# EAGLE library part AD8676BRMZ (library SSv3_1)
Dual Rail-to-Rail Output Op Amp
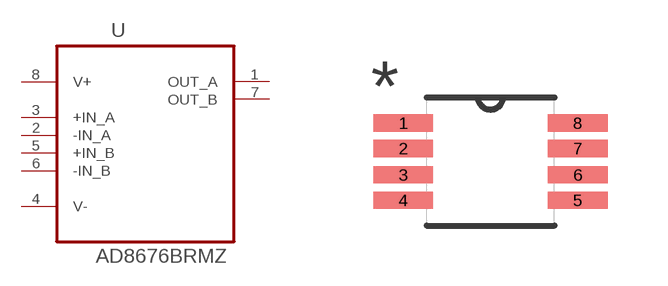
[diagram p0: symbol with the pads of SOP65P490X110-8N; footprint SOP65P490X110-8N]

Designator prefix U

## AD8676BRMZ (MPN: AD8676BRMZ; OC_FARNELL: -; OC_NEWARK: 45P6472; PACKAGE: MSOP-8; SUPPLIER: ANALOG DEVICES)  [SOP65P490X110-8N]
1  OUT_A  out
2  -IN_A  in
3  +IN_A  in
4  V-  pwr
5  +IN_B  in
6  -IN_B  in
7  OUT_B  out
8  V+  pwr

## Footprint SOP65P490X110-8N (pad centres in mm)
smd 1.499 x 0.432: 1 -2.184,0.965; 2 -2.184,0.33; 3 -2.184,-0.33; 4 -2.184,-0.965; 5 2.184,-0.965; 6 2.184,-0.33; 7 2.184,0.33; 8 2.184,0.965